# Altium footprint library SOP127P600-8N_100PinConnRecptr_Hirose_1.PcbLib: 1 footprints
Each footprint in its own frame and in the unit in brackets; x right, y up, seen from the top. Pads: shape width x height; smd on the part's side, far side on the other; paste and mask are expansions set on the pad; w line width, h text height; cw(c..) or ccw(c..) is an arc to the next point about the centre after c.
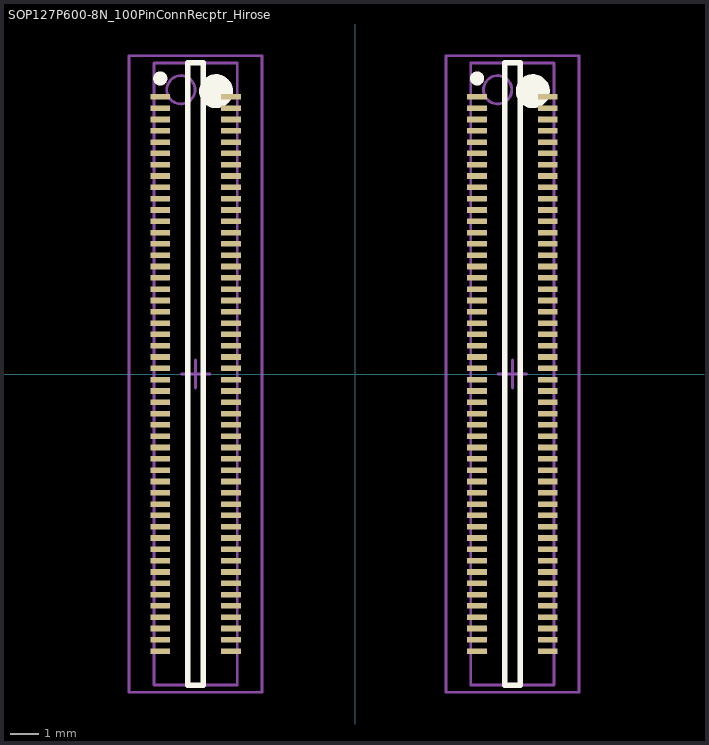
[diagram p0: the footprint, top view; thin cyan lines are the x and y axes]

## SOP127P600-8N_100PinConnRecptr_Hirose [mm] "SOP127P600-8N_100PinConnRecptr_Hirose"
height 2.55
pads (200):
  rect 0.7x0.2 smd: 1(-6.9,9.8) 1(4.3,9.8) 2(-6.9,9.4) 2(4.3,9.4) 3(-6.9,9) 3(4.3,9) 4(-6.9,8.6) 4(4.3,8.6) 5(-6.9,8.2) 5(4.3,8.2) 6(-6.9,7.8) 6(4.3,7.8) 7(-6.9,7.4) 7(4.3,7.4) 8(-6.9,7) 8(4.3,7) 9(-6.9,6.6) 9(4.3,6.6) 10(-6.9,6.2) 10(4.3,6.2) 11(-6.9,5.8) 11(4.3,5.8) 12(-6.9,5.4) 12(4.3,5.4) 13(-6.9,5) 13(4.3,5) 14(-6.9,4.6) 14(4.3,4.6) 15(-6.9,4.2) 15(4.3,4.2) 16(-6.9,3.8) 16(4.3,3.8) 17(-6.9,3.4) 17(4.3,3.4) 18(-6.9,3) 18(4.3,3) 19(-6.9,2.6) 19(4.3,2.6) 20(-6.9,2.2) 20(4.3,2.2) 21(-6.9,1.8) 21(4.3,1.8) 22(-6.9,1.4) 22(4.3,1.4) 23(-6.9,1) 23(4.3,1) 24(-6.9,0.6) 24(4.3,0.6) 25(-6.9,0.2) 25(4.3,0.2) 26(-6.9,-0.2) 26(4.3,-0.2) 27(-6.9,-0.6) 27(4.3,-0.6) 28(-6.9,-1) 28(4.3,-1) 29(-6.9,-1.4) 29(4.3,-1.4) 30(-6.9,-1.8) 30(4.3,-1.8) 31(-6.9,-2.2) 31(4.3,-2.2) 32(-6.9,-2.6) 32(4.3,-2.6) 33(-6.9,-3) 33(4.3,-3) 34(-6.9,-3.4) 34(4.3,-3.4) 35(-6.9,-3.8) 35(4.3,-3.8) 36(-6.9,-4.2) 36(4.3,-4.2) 37(-6.9,-4.6) 37(4.3,-4.6) 38(-6.9,-5) 38(4.3,-5) 39(-6.9,-5.4) 39(4.3,-5.4) 40(-6.9,-5.8) 40(4.3,-5.8) 41(-6.9,-6.2) 41(4.3,-6.2) 42(-6.9,-6.6) 42(4.3,-6.6) 43(-6.9,-7) 43(4.3,-7) 44(-6.9,-7.4) 44(4.3,-7.4) 45(-6.9,-7.8) 45(4.3,-7.8) 46(-6.9,-8.2) 46(4.3,-8.2) 47(-6.9,-8.6) 47(4.3,-8.6) 48(-6.9,-9) 48(4.3,-9) 49(-6.9,-9.4) 49(4.3,-9.4) 50(-6.9,-9.8) 50(4.3,-9.8) 51(-4.4,-9.8) 51(6.8,-9.8) 52(-4.4,-9.4) 52(6.8,-9.4) 53(-4.4,-9) 53(6.8,-9) 54(-4.4,-8.6) 54(6.8,-8.6) 55(-4.4,-8.2) 55(6.8,-8.2) 56(-4.4,-7.8) 56(6.8,-7.8) 57(-4.4,-7.4) 57(6.8,-7.4) 58(-4.4,-7) 58(6.8,-7) 59(-4.4,-6.6) 59(6.8,-6.6) 60(-4.4,-6.2) 60(6.8,-6.2) 61(-4.4,-5.8) 61(6.8,-5.8) 62(-4.4,-5.4) 62(6.8,-5.4) 63(-4.4,-5) 63(6.8,-5) 64(-4.4,-4.6) 64(6.8,-4.6) 65(-4.4,-4.2) 65(6.8,-4.2) 66(-4.4,-3.8) 66(6.8,-3.8) 67(-4.4,-3.4) 67(6.8,-3.4) 68(-4.4,-3) 68(6.8,-3) 69(-4.4,-2.6) 69(6.8,-2.6) 70(-4.4,-2.2) 70(6.8,-2.2) 71(-4.4,-1.8) 71(6.8,-1.8) 72(-4.4,-1.4) 72(6.8,-1.4) 73(-4.4,-1) 73(6.8,-1) 74(-4.4,-0.6) 74(6.8,-0.6) 75(-4.4,-0.2) 75(6.8,-0.2) 76(-4.4,0.2) 76(6.8,0.2) 77(-4.4,0.6) 77(6.8,0.6) 78(-4.4,1) 78(6.8,1) 79(-4.4,1.4) 79(6.8,1.4) 80(-4.4,1.8) 80(6.8,1.8) 81(-4.4,2.2) 81(6.8,2.2) 82(-4.4,2.6) 82(6.8,2.6) 83(-4.4,3) 83(6.8,3) 84(-4.4,3.4) 84(6.8,3.4) 85(-4.4,3.8) 85(6.8,3.8) 86(-4.4,4.2) 86(6.8,4.2) 87(-4.4,4.6) 87(6.8,4.6) 88(-4.4,5) 88(6.8,5) 89(-4.4,5.4) 89(6.8,5.4) 90(-4.4,5.8) 90(6.8,5.8) 91(-4.4,6.2) 91(6.8,6.2) 92(-4.4,6.6) 92(6.8,6.6) 93(-4.4,7) 93(6.8,7) 94(-4.4,7.4) 94(6.8,7.4) 95(-4.4,7.8) 95(6.8,7.8) 96(-4.4,8.2) 96(6.8,8.2) 97(-4.4,8.6) 97(6.8,8.6) 98(-4.4,9) 98(6.8,9) 99(-4.4,9.4) 99(6.8,9.4) 100(-4.4,9.8) 100(6.8,9.8)
Top Overlay:
  circle w0.6: c-4.925,10 r0.3
  circle w0.25: c-6.9,10.45 r0.125
  circle w0.25: c4.3,10.45 r0.125
  circle w0.6: c6.275,10 r0.3
  lines w0.2: -5.925,-11 -5.375,-11 -5.375,11 -5.925,11 -5.925,-11 ; 5.275,-11 5.275,11 5.825,11 5.825,-11 5.275,-11
Mechanical 13:
  circle w0.1: c-6.17,10.05 r0.5
  circle w0.1: c5.03,10.05 r0.5
  lines w0.1: -7.12,-11 -4.18,-11 -4.18,11 -7.12,11 -7.12,-11 ; 4.08,-11 4.08,11 7.02,11 7.02,-11 4.08,-11
Mechanical 15:
  lines w0.1: -6.15,0 -5.15,0 ; -5.65,-0.5 -5.65,0.5 ; 5.05,0 6.05,0 ; 5.55,-0.5 5.55,0.5 ; -8,-11.25 -3.3,-11.25 -3.3,11.25 -8,11.25 -8,-11.25 ; 3.2,-11.25 3.2,11.25 7.9,11.25 7.9,-11.25 3.2,-11.25
3D body: height 2.31, standoff -1.14, extent -7.545,-12.877 7.455,14.123